# Altium footprint library Inductor.PcbLib: 1 footprints
Each footprint in its own frame and in the unit in brackets; x right, y up, seen from the top. Pads: shape width x height; smd on the part's side, far side on the other; paste and mask are expansions set on the pad; w line width, h text height; cw(c..) or ccw(c..) is an arc to the next point about the centre after c.
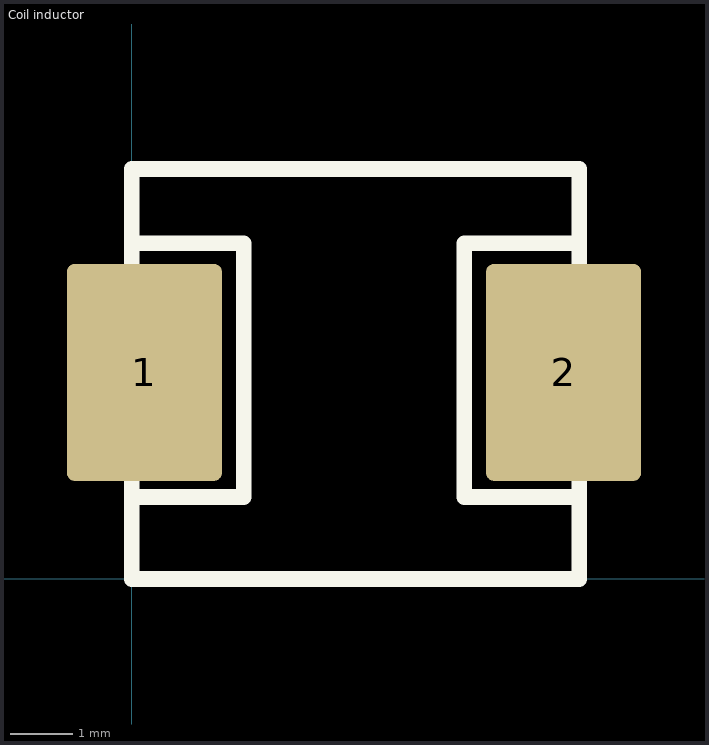
[diagram p0: the footprint, top view; thin cyan lines are the x and y axes]

## Coil inductor [mm] "High-current coil inductor"
height 3
pads (2):
  rrect10% 2.5x3.5 smd: 1(0.203,3.327) 2(6.96,3.327)
Top Overlay:
  lines w0.254: 0,1.321 1.803,1.321 1.803,5.41 0,5.41 ; 7.214,1.321 5.359,1.321 5.359,5.41 7.214,5.41 ; 0,0 7.214,0 7.214,6.604 0,6.604 0,0